# EAGLE library part MAX3232 (library Projekt)
Texas Instruments RS-232 Transceivers Supply-Current, True +3V to +5.5V
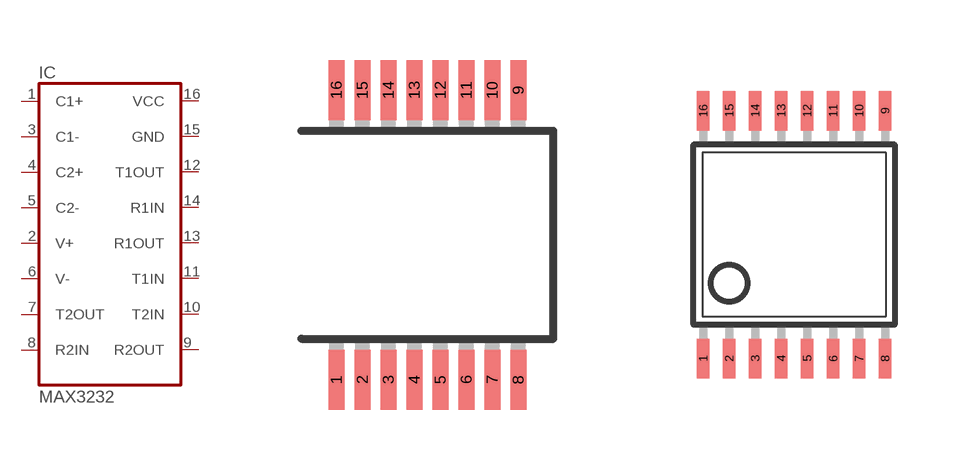
[diagram p5: symbol with the pads of SSOP16; footprints SSOP16, TSSOP16]

Designator prefix IC

## MAX3232IDBR  [SSOP16]
1  C1+  pas
2  V+  in
3  C1-  pas
4  C2+  pas
5  C2-  pas
6  V-  in
7  T2OUT  in
8  R2IN  out
9  R2OUT  in
10  T2IN  in
11  T1IN  in
12  T1OUT  pas
13  R1OUT  out
14  R1IN  pas
15  GND
16  VCC

## MAX3232IPW  [TSSOP16]
1  C1+  pas
2  V+  in
3  C1-  pas
4  C2+  pas
5  C2-  pas
6  V-  in
7  T2OUT  in
8  R2IN  out
9  R2OUT  in
10  T2IN  in
11  T1IN  in
12  R1OUT  out
13  R1IN  pas
14  T1OUT  pas
15  GND
16  VCC

## Footprint SSOP16 (pad centres in mm)
Shrink Small Outline Package package type SS
smd 0.4 x 1.5: 1 -2.275,-3.625; 2 -1.625,-3.625; 3 -0.975,-3.625; 4 -0.325,-3.625; 5 0.325,-3.625; 6 0.975,-3.625; 7 1.625,-3.625; 8 2.275,-3.625; 9 2.275,3.625; 10 1.625,3.625; 11 0.975,3.625; 12 0.325,3.625; 13 -0.325,3.625; 14 -0.975,3.625; 15 -1.625,3.625; 16 -2.275,3.625

## Footprint TSSOP16 (pad centres in mm)
Thin Shrink Small Outline Plastic 16 http://www.maxim-ic.com .. MAX3223-MAX3243.pdf
smd 0.305 x 0.991: 1 -2.275,-3.1; 2 -1.625,-3.1; 3 -0.975,-3.1; 4 -0.325,-3.1; 5 0.325,-3.1; 6 0.975,-3.1; 7 1.625,-3.1; 8 2.275,-3.1; 9 2.275,3.1; 10 1.625,3.1; 11 0.975,3.1; 12 0.325,3.1; 13 -0.325,3.1; 14 -0.975,3.1; 15 -1.625,3.1; 16 -2.275,3.1